# EAGLE library part 5145299-2 (library chipcard-siemens)
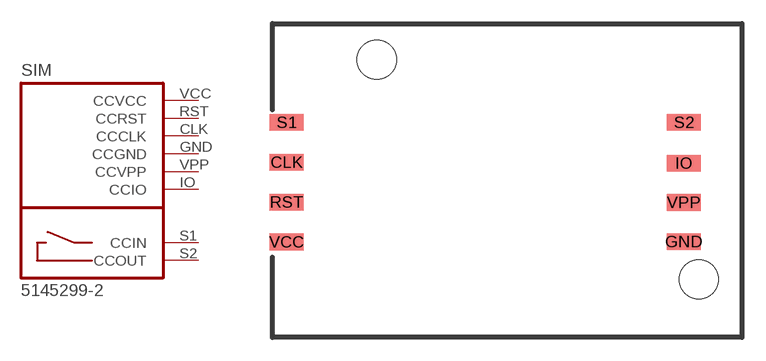
[diagram p3: symbol with the pads of 5145299-2; footprint 5145299-2]

Designator prefix SIM

## 5145299-2  [5145299-2]
CLK  CCCLK  pas
GND  CCGND  pas
IO  CCIO  pas
RST  CCRST  pas
S1  CCIN  pas
S2  CCOUT  pas
VCC  CCVCC  pas
VPP  CCVPP  pas

## Footprint 5145299-2 (pad centres in mm)
smd 2.184 x 1.067: CLK -16,0.46; GND 9.3,-4.6; IO 9.3,0.4; RST -16,-2.08; S1 -16,3; S2 9.3,3; VCC -16,-4.62; VPP 9.3,-2.1
hole 2.5 at -10.25,7
hole 2.5 at 10.25,-7